# EAGLE library part IPLD610 (library pld-intel)
PLD
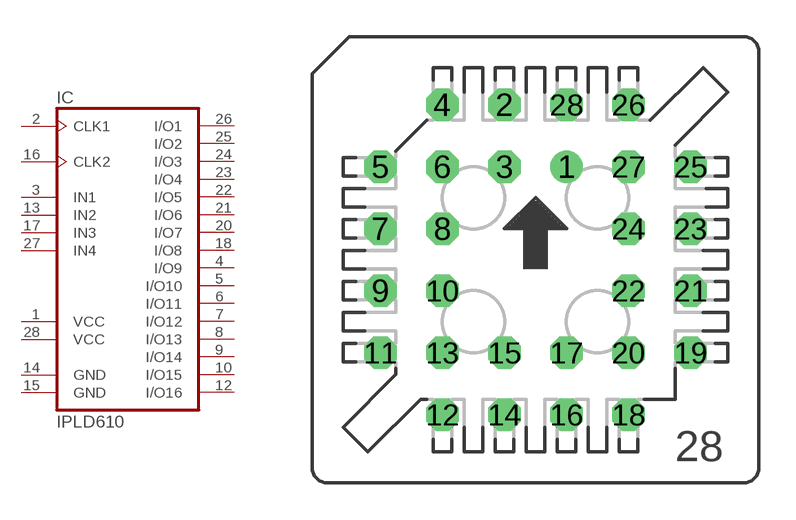
[diagram p5: symbol with the pads of S28; footprint S28]

Designator prefix IC

## IPLD610  [S28]
1  VCC  pwr
2  CLK1  in
3  IN1  in
4  I/O9
5  I/O10
6  I/O11
7  I/O12
8  I/O13
9  I/O14
10  I/O15
12  I/O16
13  IN2  in
14  GND  pwr
15  GND  pwr
16  CLK2  in
17  IN3  in
18  I/O8
20  I/O7
21  I/O6
22  I/O5
23  I/O4
24  I/O3
25  I/O2
26  I/O1
27  IN4  in
28  VCC  pwr

## Footprint S28 (pad centres in mm)
PLCC SOCKET
drill 0.813 round: 1 1.27,3.81
drill 0.813 octagon: 2 -1.27,6.35; 3 -1.27,3.81; 4 -3.81,6.35; 5 -6.35,3.81; 6 -3.81,3.81; 7 -6.35,1.27; 8 -3.81,1.27; 9 -6.35,-1.27; 10 -3.81,-1.27; 11 -6.35,-3.81; 12 -3.81,-6.35; 13 -3.81,-3.81; 14 -1.27,-6.35; 15 -1.27,-3.81; 16 1.27,-6.35; 17 1.27,-3.81; 18 3.81,-6.35; 19 6.35,-3.81; 20 3.81,-3.81; 21 6.35,-1.27; 22 3.81,-1.27; 23 6.35,1.27; 24 3.81,1.27; 25 6.35,3.81; 26 3.81,6.35; 27 3.81,3.81; 28 1.27,6.35